# EAGLE library part CH340T (library ch340)
CH340T CH340T <https://raw.githubusercontent.com/Thore-Krug/ch340/master/datasheets/ch340-datasheet-englisch-rev2.pdf> The CH340T is a SSOP20 USB to UART adapter, it supports 5V and 3V3 IO Voltage.
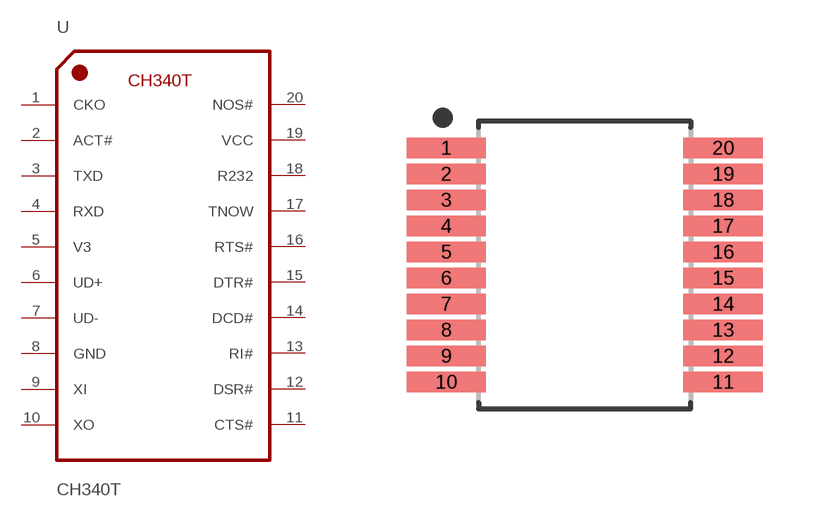
[diagram p4: symbol with the pads of SOP65P770X160-20M; footprint SOP65P770X160-20M]

Designator prefix U

## CH340T (MFG: WCH; MPN: CH340T; OC_LCSC: C8689)  [SOP65P770X160-20M]
1  CKO  out
2  ACT#  out
3  TXD  out
4  RXD  in
5  V3  pwr
6  UD+
7  UD-
8  GND  pas
9  XI  in
10  XO  out
11  CTS#  in
12  DSR#  in
13  RI#  in
14  DCD#  in
15  DTR#  out
16  RTS#  out
17  TNOW  out
18  R232  in
19  VCC  pwr
20  NOS#  in

## Footprint SOP65P770X160-20M (pad centres in mm)
20-SOP, 0.65 mm pitch, 7.70 mm span, 7.20 X 5.30 X 1.60 mm body 20-pin SOP package with 0.65 mm pitch, 7.70 mm span with body size 7.20 X 5.30 X 1.60 mm
smd 1.987 x 0.512: 1 -3.462,2.925; 2 -3.462,2.275; 3 -3.462,1.625; 4 -3.462,0.975; 5 -3.462,0.325; 6 -3.462,-0.325; 7 -3.462,-0.975; 8 -3.462,-1.625; 9 -3.462,-2.275; 10 -3.462,-2.925; 11 3.462,-2.925; 12 3.462,-2.275; 13 3.462,-1.625; 14 3.462,-0.975; 15 3.462,-0.325; 16 3.462,0.325; 17 3.462,0.975; 18 3.462,1.625; 19 3.462,2.275; 20 3.462,2.925